# Altium schematic symbol library SCH - DIODES - SCHOTTKY-3p.SCHLIB: 1 symbol
Pins are listed as number, name and electrical type; pins without a type are passive.

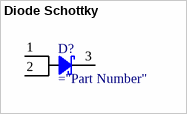
[diagram p0: symbol Diode Schottky]

## Diode Schottky
designator D?
Zener Diode
pins: 1, 2, 3